# Altium schematic symbol library LM334MX.SchLib: 1 symbol
Pins are listed as number, name and electrical type; pins without a type are passive.

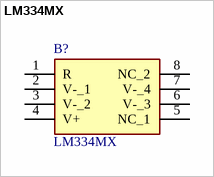
[diagram p0: symbol LM334MX]

## LM334MX
designator B?
Current & Power Monitors & Regulators 3-Terminal Adjustable Current Source 8-SOIC 0 to 70; Manufacturer_Name: Texas Instruments; Geometry.Height: 1.75mm; Manufacturer_Part_Number: LM334MX; Mouser Part Number: 926-LM334MX; Mouser Price/Stock: https://www.mouser.co.uk/ProductDetail/Texas-Instruments/LM334MX?qs=X1J7HmVL2ZFtDDpPn2fvWQ%3D%3D; Arrow Part Number: *; Arrow Price/Stock: *; Datasheet Link: https://www.ti.com/lit/ds/symlink/lm334.pdf?ts=1637153972899&ref_url=https%253A%252F%252Fwww.ti.com%252Fstore%252Fti%252Fen%252Fp%252Fproduct%252F%253Fp%253DLM334MX%252FNOPB
footprint SOIC127P600X175-8N
pins: 1 R, 2 V-_1, 3 V-_2, 4 V+, 5 NC_1, 6 V-_3, 7 V-_4, 8 NC_2